# EAGLE library part USB_MICRO (library bschulz)
General Micro USB - AB Connector
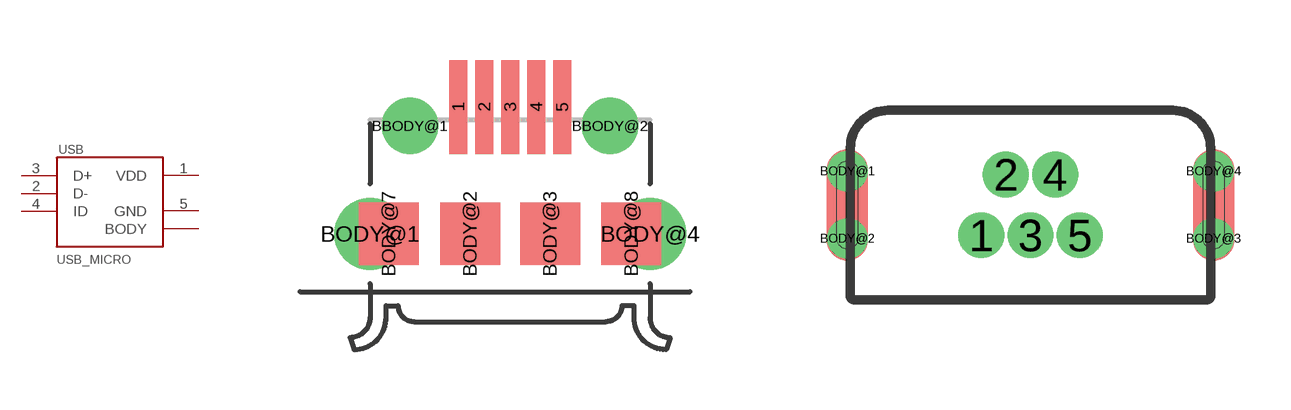
[diagram p22: symbol with the pads of 10118194-0001LF_10118194-0001LF_LONGER_PADS; footprints 10118194-0001LF_10118194-0001LF_LONGER_PADS, MUSB-K552-30]

Designator prefix USB

## USB_MICRO (DIGIKEY: 609-4618-1-ND; MF: Amphenol; MPN: 10118194-0001LF)  [10118194-0001LF_10118194-0001LF_LONGER_PADS]
1  VDD  pwr
2  D-
3  D+
4  ID  pas
5  GND  pwr
BODY@1  BODY
BODY@2  BODY
BODY@3  BODY
BODY@4  BODY
BODY@7  BODY
BODY@8  BODY

## USB_MICROMUSB-K552 (DIGIKEY: MUSB-K552-30-ND; MF: Amphenol; MPN: MUSB-K552-30)  [MUSB-K552-30]
1  VDD  pwr
2  D-
3  D+
4  ID  pas
5  GND  pwr
BODY@1  BODY
BODY@2  BODY
BODY@3  BODY
BODY@4  BODY

## USB_MICROMUSB-K152 (DIGIKEY: MUSBK15230-ND; MF: Amphenol; MPN: MUSBK15230)  [MUSB-K152-30]
Pads as for MUSB-K552-30

## USB_MICROVERT (DIGIKEY: WM9734CT-ND; MF: Molex; MPN: 1051330001)  [USB_MICRO_VERT_MOLEX]
1  VDD  pwr
2  D-
3  D+
4  ID  pas
5  GND  pwr
P$1  BODY
P$2  BODY
P$3  BODY
P$4  BODY
P$5  BODY
P$6  BODY

## Footprint 10118194-0001LF_10118194-0001LF_LONGER_PADS (pad centres in mm)
smd 0.45 x 2.35: 1 -1.3,3.175; 2 -0.65,3.175; 3 0,3.175; 4 0.65,3.175; 5 1.3,3.175
drill 0.9: BBODY@1 -2.5,2.7; BBODY@2 2.5,2.7
drill 1.2: BODY@1 -3.5,0; BODY@4 3.5,0
smd 1.5 x 1.55: BODY@2 -1,0; BODY@3 1,0; BODY@7 -3.032,0; BODY@8 3.032,0

## Footprint MUSB-K552-30 (pad centres in mm)
Rugged USB Connector Amphenol, Micro USB, Right Angle, IP67 Drawing <https://cdn.amphenol-icc.com/media/wysiwyg/files/drawing/musbk552xx.pdf?__cf_chl_jschl_tk__=e4760917f8047a040d6b5e9b6cf9b30454359617-1608225763-0-AXqBAA2nSIczXJvMrxZksZ1D1UxWkDs9mHrouAuk7FrHtm4EGkC2GM6p6IKTGXMIS4Nbl1zWFVF27QvDb9NDpeTrdNJE7ZLCSHsgf_-jDs2zoWprswr1-yMTg1N90-vOcl3c_7z8-DmwWZmywxyEOq-hNehmrU8RmH3jX1ie2coSEKetVMCF-yzPBwcgPEJQFRIm42_5OjUIn7EoCIdIZjeY4-AoeWSe4ADjr9tC4WEJHoemnB0mkumJ9QwMUPY1m_AuCqJ4Ep7xGY0CX4jGgp83yeqKPoJOX0JQMM9YF4BimIZ518zSnArja39516OwnPDuqrVIwLbk0EvQ5bXQhNo1SrTGa8kUEdCV9Eant4onnafEZK2iLJTJLfq-9Mu_tp8Ge1X3kKkfBnZzIHCtJM7LLYGs61QWtoZmDa7bIuVe>
drill 0.7: 1 -1.3,-0.8; 2 -0.65,0.8; 3 0,-0.8; 4 0.65,0.8; 5 1.3,-0.8
drill 0.55: BODY@1 -4.826,0.889; BODY@2 -4.826,-0.889; BODY@3 4.826,-0.889; BODY@4 4.826,0.889

## Footprint MUSB-K152-30 (pad centres in mm)
Rugged USB Connector Amphenol, Micro USB, Right Angle, IP67 Drawing <https://www.amphenol-icc.com/media/wysiwyg/files/drawing/musbk152xx.pdf>
drill 0.7: 1 -1.3,0.8; 2 -0.65,-0.8; 3 0,0.8; 4 0.65,-0.8; 5 1.3,0.8
drill 0.95: BODY@1 -4.25,1.1; BODY@2 -4.25,-1.1; BODY@3 4.25,-1.1; BODY@4 4.25,1.1

## Footprint USB_MICRO_VERT_MOLEX (pad centres in mm)
USB, Micro B - Vertical Datasheet <https://www.molex.com/pdm_docs/sd/1051330001_sd.pdf>
smd 0.45 x 1.5: 1 -1.3,0.78; 2 -0.65,0.78; 3 0,0.75; 4 0.65,0.75; 5 1.3,0.75
drill 0.5 pad 1.1: P$1 -3.15,1; P$2 -2.45,1; P$3 2.45,1; P$4 3.15,1; P$5 -0.55,-1.15; P$6 0.55,-1.15